# Altium footprint library TS3704IPT.PcbLib: 1 footprints
Each footprint in its own frame and in the unit in brackets; x right, y up, seen from the top. Pads: shape width x height; smd on the part's side, far side on the other; paste and mask are expansions set on the pad; w line width, h text height; cw(c..) or ccw(c..) is an arc to the next point about the centre after c.
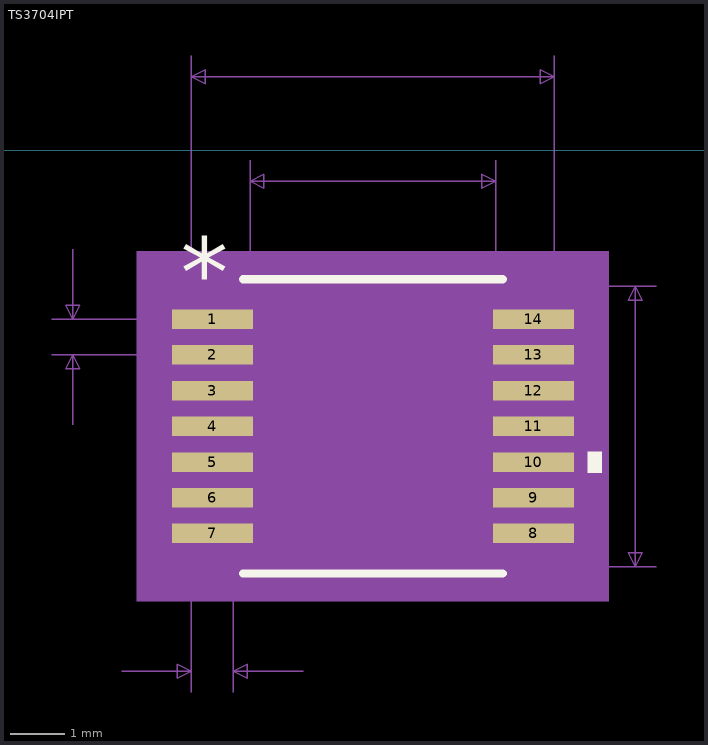
[diagram p0: the footprint, top view; thin cyan lines are the x and y axes]

## TS3704IPT [mil]
pads (14):
  rect 58x14 smd paste+0 mask+0: 1(1060.59,-121.18) 2(1060.59,-146.77) 3(1060.59,-172.36) 4(1060.59,-197.95) 5(1060.59,-223.54) 6(1060.59,-249.13) 7(1060.59,-274.72) 8(1290.59,-274.72) 9(1290.59,-249.13) 10(1290.59,-223.54) 11(1290.59,-197.95) 12(1290.59,-172.36) 13(1290.59,-146.77) 14(1290.59,-121.18)
Top Overlay:
  region: 1329.59,-216.04 1339.59,-216.04 1339.59,-231.04 1329.59,-231.04
  lines w6: 1082.59,-303.45 1268.59,-303.45 ; 1082.59,-92.45 1268.59,-92.45
  text "*" at 1038.09,-112.18 h50
Mechanical 5:
  region: 1344.59,-323.45 1006.59,-323.45 1006.59,-72.45 1344.59,-72.45
Mechanical 7:
  lines w1: 945.59,-146.77 1060.59,-146.77 ; 945.59,-121.18 1060.59,-121.18 ; 960.59,-196.77 960.59,-146.77 ; 960.59,-71.18 960.59,-121.18 ; 995.59,-373.45 1045.59,-373.45 ; 1045.59,-388.45 1045.59,-197.95 1045.59,67.55 ; 1075.59,-388.45 1075.59,-197.95 ; 1087.59,-197.95 1087.59,-7.45 ; 1125.59,-373.45 1075.59,-373.45 ; 1175.59,-298.45 1378.59,-298.45 ; 1175.59,-97.45 1378.59,-97.45 ; 1263.59,-197.95 1263.59,-7.45 ; 1305.59,-197.95 1305.59,67.55 ; 960.59,-146.77 965.59,-156.77 955.59,-156.77 960.59,-146.77 ; 960.59,-121.18 965.59,-111.18 955.59,-111.18 960.59,-121.18 ; 1045.59,-373.45 1035.59,-378.45 1035.59,-368.45 1045.59,-373.45 ; 1045.59,52.55 1055.59,47.55 1055.59,57.55 1045.59,52.55 ; 1045.59,52.55 1305.59,52.55 ; 1075.59,-373.45 1085.59,-378.45 1085.59,-368.45 1075.59,-373.45 ; 1087.59,-22.45 1097.59,-27.45 1097.59,-17.45 1087.59,-22.45 ; 1087.59,-22.45 1263.59,-22.45 ; 1263.59,-22.45 1253.59,-27.45 1253.59,-17.45 1263.59,-22.45 ; 1305.59,52.55 1295.59,47.55 1295.59,57.55 1305.59,52.55 ; 1363.59,-298.45 1368.59,-288.45 1358.59,-288.45 1363.59,-298.45 ; 1363.59,-298.45 1363.59,-97.45 ; 1363.59,-97.45 1368.59,-107.45 1358.59,-107.45 1363.59,-97.45
  text "0.03in/0.762mm" at 973.09,-418.45 h25
  text "0.026in/0.65mm" at 765.59,-146.48 h25
  text "0.201in/5.105mm" at 1383.59,-210.45 h25
  text "0.26in/6.604mm" at 1088.09,72.55 h25
  text "0.176in/4.47mm" at 1088.09,-2.45 h25
  text "Alt 2 Padstyle: OX90Y60D30P" at 838.09,-798.45 h50
  text "Alt 1 Padstyle: OX60Y90D30P" at 838.09,-738.45 h50
  text "Pin One Padstyle: RX58Y14D0T" at 825.59,-558.45 h50
  text "Default Padstyle: RX58Y14D0T" at 825.59,-498.45 h50
Mechanical 13:
  lines w0: 1163.59,-97.45 ccw(c1175.59,-97.45) 1187.59,-97.45
  lines w1: 1045.59,-280.72 1087.59,-280.72 1087.59,-268.72 1045.59,-268.72 1045.59,-280.72 ; 1045.59,-255.13 1087.59,-255.13 1087.59,-243.13 1045.59,-243.13 1045.59,-255.13 ; 1045.59,-229.54 1087.59,-229.54 1087.59,-217.54 1045.59,-217.54 1045.59,-229.54 ; 1045.59,-203.95 1087.59,-203.95 1087.59,-191.95 1045.59,-191.95 1045.59,-203.95 ; 1045.59,-178.36 1087.59,-178.36 1087.59,-166.36 1045.59,-166.36 1045.59,-178.36 ; 1045.59,-152.77 1087.59,-152.77 1087.59,-140.77 1045.59,-140.77 1045.59,-152.77 ; 1045.59,-127.18 1087.59,-127.18 1087.59,-115.18 1045.59,-115.18 1045.59,-127.18 ; 1087.59,-298.45 1087.59,-97.45 1263.59,-97.45 1263.59,-298.45 1087.59,-298.45 ; 1263.59,-280.72 1305.59,-280.72 1305.59,-268.72 1263.59,-268.72 1263.59,-280.72 ; 1263.59,-255.13 1305.59,-255.13 1305.59,-243.13 1263.59,-243.13 1263.59,-255.13 ; 1263.59,-229.54 1305.59,-229.54 1305.59,-217.54 1263.59,-217.54 1263.59,-229.54 ; 1263.59,-203.95 1305.59,-203.95 1305.59,-191.95 1263.59,-191.95 1263.59,-203.95 ; 1263.59,-178.36 1305.59,-178.36 1305.59,-166.36 1263.59,-166.36 1263.59,-178.36 ; 1263.59,-152.77 1305.59,-152.77 1305.59,-140.77 1263.59,-140.77 1263.59,-152.77 ; 1263.59,-127.18 1305.59,-127.18 1305.59,-115.18 1263.59,-115.18 1263.59,-127.18
  text "*" at 1090.09,-150.45 h50
Mechanical 15:
  region: 1077.59,-291.72 1021.59,-291.72 1021.59,-104.18 1077.59,-104.18 1077.59,-87.45 1273.59,-87.45 1273.59,-104.18 1329.59,-104.18 1329.59,-291.72 1273.59,-291.72 1273.59,-308.45 1077.59,-308.45
  lines w6: 1021.59,-291.72 1077.59,-291.72 1077.59,-308.45 1273.59,-308.45 1273.59,-291.72 1329.59,-291.72 1329.59,-104.18 1273.59,-104.18 1273.59,-87.45 1077.59,-87.45 1077.59,-104.18 1021.59,-104.18 1021.59,-291.72
3D body "TSSOP14_STM.step": height 47.09, standoff 0, extent 1045.6,-298.46 1305.6,-97.44
3D body: height 10, standoff 0, extent 1175.59,-197.95 1185.59,-187.95